# EAGLE library part MICROSD (library 1dah)
microSD card holder
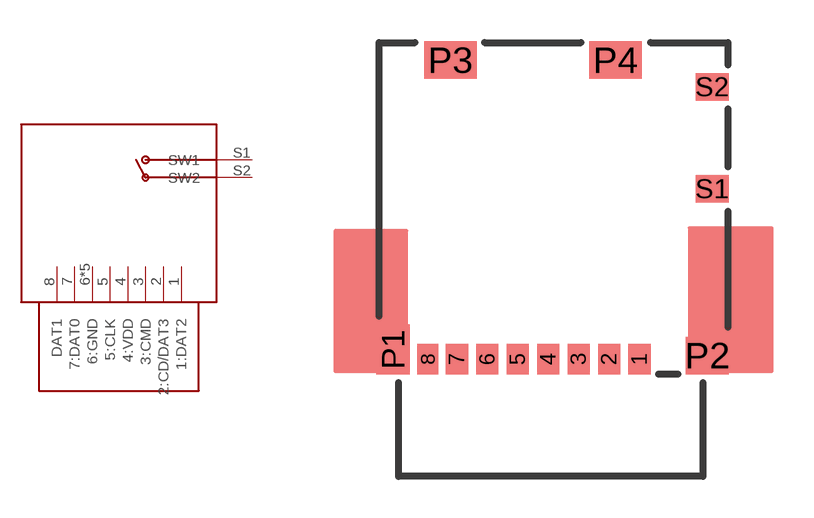
[diagram p49: symbol with the pads of MICROSD-104031-0811; footprint MICROSD-104031-0811]

Designator prefix -

## MICROSD  [MICROSD-104031-0811]
1  1:DAT2  out
2  2:CD/DAT3  out
3  3:CMD  out
4  4:VDD  out
5  5:CLK  out
6  6:GND  out
7  7:DAT0  out
8  DAT1  out
P1  6:GND  out
P2  6:GND  out
P3  6:GND  out
P4  6:GND  out
S1  SW1  out
S2  SW2  out

## Footprint MICROSD-104031-0811 (pad centres in mm)
microSD card holder
smd 0.8 x 1.1: 1 3.11,0.25; 2 2.01,0.25; 3 0.91,0.25; 4 -0.19,0.25; 5 -1.29,0.25; 6 -2.39,0.25; 7 -3.49,0.25
smd 0.75 x 1.1: 8 -4.55,0.25
smd 1.2 x 1.8: P1 -5.8,0.6
smd 1.55 x 1.35: P2 5.56,0.38
smd 1.9 x 1.35: P3 -3.73,11.07; P4 2.24,11.07
smd 1.2 x 1: S1 5.74,6.41; S2 5.74,10.1